# EAGLE library part XE167FM (library xe167_lqfp144)
Infineon XE167FM
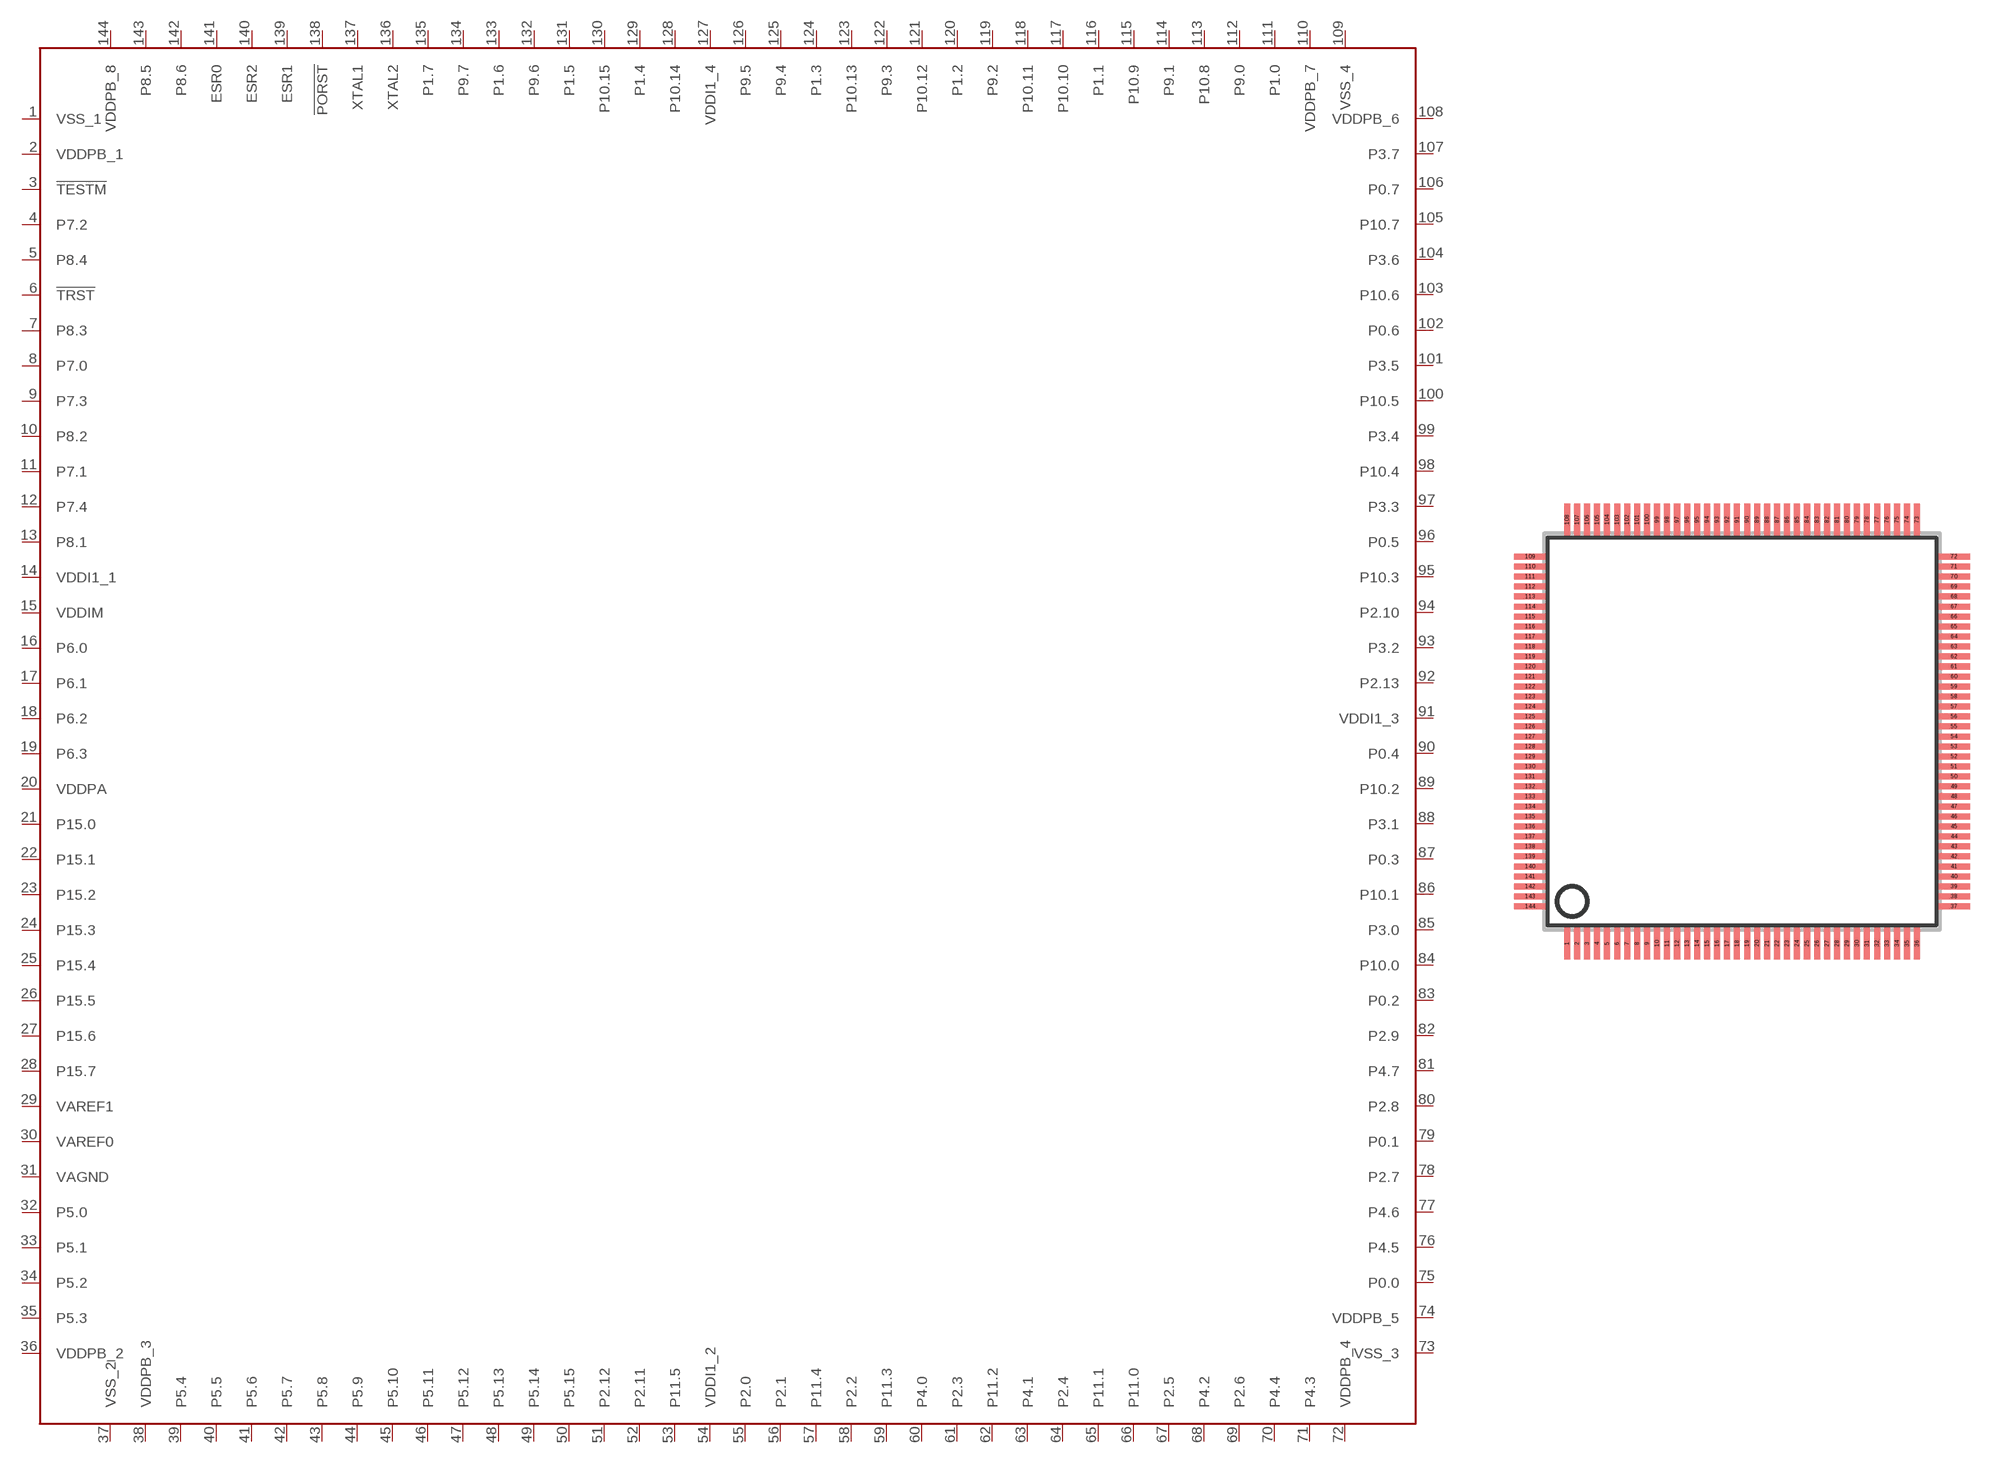
[diagram p0: symbol with the pads of LQFP144; footprint LQFP144]

Designator prefix IC

## XE167FM  [LQFP144]
1  VSS_1  pas
2  VDDPB_1  pas
3  !TESTM  pas
4  P7.2  pas
5  P8.4  pas
6  !TRST  pas
7  P8.3  pas
8  P7.0  pas
9  P7.3  pas
10  P8.2  pas
11  P7.1  pas
12  P7.4  pas
13  P8.1  pas
14  VDDI1_1  pas
15  VDDIM  pas
16  P6.0  pas
17  P6.1  pas
18  P6.2  pas
19  P6.3  pas
20  VDDPA  pas
21  P15.0  pas
22  P15.1  pas
23  P15.2  pas
24  P15.3  pas
25  P15.4  pas
26  P15.5  pas
27  P15.6  pas
28  P15.7  pas
29  VAREF1  pas
30  VAREF0  pas
31  VAGND  pas
32  P5.0  pas
33  P5.1  pas
34  P5.2  pas
35  P5.3  pas
36  VDDPB_2  pas
37  VSS_2  pas
38  VDDPB_3  pas
39  P5.4  pas
40  P5.5  pas
41  P5.6  pas
42  P5.7  pas
43  P5.8  pas
44  P5.9  pas
45  P5.10  pas
46  P5.11  pas
47  P5.12  pas
48  P5.13  pas
49  P5.14  pas
50  P5.15  pas
51  P2.12  pas
52  P2.11  pas
53  P11.5  pas
54  VDDI1_2  pas
55  P2.0  pas
56  P2.1  pas
57  P11.4  pas
58  P2.2  pas
59  P11.3  pas
60  P4.0  pas
61  P2.3  pas
62  P11.2  pas
63  P4.1  pas
64  P2.4  pas
65  P11.1  pas
66  P11.0  pas
67  P2.5  pas
68  P4.2  pas
69  P2.6  pas
70  P4.4  pas
71  P4.3  pas
72  VDDPB_4  pas
73  VSS_3  pas
74  VDDPB_5  pas
75  P0.0  pas
76  P4.5  pas
77  P4.6  pas
78  P2.7  pas
79  P0.1  pas
80  P2.8  pas
81  P4.7  pas
82  P2.9  pas
83  P0.2  pas
84  P10.0  pas
85  P3.0  pas
86  P10.1  pas
87  P0.3  pas
88  P3.1  pas
89  P10.2  pas
90  P0.4  pas
91  VDDI1_3  pas
92  P2.13  pas
93  P3.2  pas
94  P2.10  pas
95  P10.3  pas
96  P0.5  pas
97  P3.3  pas
98  P10.4  pas
99  P3.4  pas
100  P10.5  pas
101  P3.5  pas
102  P0.6  pas
103  P10.6  pas
104  P3.6  pas
105  P10.7  pas
106  P0.7  pas
107  P3.7  pas
108  VDDPB_6  pas
109  VSS_4  pas
110  VDDPB_7  pas
111  P1.0  pas
112  P9.0  pas
113  P10.8  pas
114  P9.1  pas
115  P10.9  pas
116  P1.1  pas
117  P10.10  pas
118  P10.11  pas
119  P9.2  pas
120  P1.2  pas
121  P10.12  pas
122  P9.3  pas
123  P10.13  pas
124  P1.3  pas
125  P9.4  pas
126  P9.5  pas
127  VDDI1_4  pas
128  P10.14  pas
129  P1.4  pas
130  P10.15  pas
131  P1.5  pas
132  P9.6  pas
133  P1.6  pas
134  P9.7  pas
135  P1.7  pas
136  XTAL2  pas
137  XTAL1  pas
138  !PORST  pas
139  ESR1  pas
140  ESR2  pas
141  ESR0  pas
142  P8.6  pas
143  P8.5  pas
144  VDDPB_8  pas

## Footprint LQFP144 (pad centres in mm)
smd 0.3 x 1.6: 1 -17.64,-13.14; 2 -17.14,-13.14; 3 -16.64,-13.14; 4 -16.14,-13.14; 5 -15.64,-13.14; 6 -15.14,-13.14; 7 -14.64,-13.14; 8 -14.14,-13.14; 9 -13.64,-13.14; 10 -13.14,-13.14; 11 -12.64,-13.14; 12 -12.14,-13.14; 13 -11.64,-13.14; 14 -11.14,-13.14; 15 -10.64,-13.14; 16 -10.14,-13.14; 17 -9.64,-13.14; 18 -9.14,-13.14; 19 -8.64,-13.14; 20 -8.14,-13.14; 21 -7.64,-13.14; 22 -7.14,-13.14; 23 -6.64,-13.14; 24 -6.14,-13.14; 25 -5.64,-13.14; 26 -5.14,-13.14; 27 -4.64,-13.14; 28 -4.14,-13.14; 29 -3.64,-13.14; 30 -3.14,-13.14; 31 -2.64,-13.14; 32 -2.14,-13.14; 33 -1.64,-13.14; 34 -1.14,-13.14; 35 -0.64,-13.14; 36 -0.14,-13.14; 73 -0.14,8.06; 74 -0.64,8.06; 75 -1.14,8.06; 76 -1.64,8.06; 77 -2.14,8.06; 78 -2.64,8.06; 79 -3.14,8.06; 80 -3.64,8.06; 81 -4.14,8.06; 82 -4.64,8.06; 83 -5.14,8.06; 84 -5.64,8.06; 85 -6.14,8.06; 86 -6.64,8.06; 87 -7.14,8.06; 88 -7.64,8.06; 89 -8.14,8.06; 90 -8.64,8.06; 91 -9.14,8.06; 92 -9.64,8.06; 93 -10.14,8.06; 94 -10.64,8.06; 95 -11.14,8.06; 96 -11.64,8.06; 97 -12.14,8.06; 98 -12.64,8.06; 99 -13.14,8.06; 100 -13.64,8.06; 101 -14.14,8.06; 102 -14.64,8.06; 103 -15.14,8.06; 104 -15.64,8.06; 105 -16.14,8.06; 106 -16.64,8.06; 107 -17.14,8.06; 108 -17.64,8.06
smd 1.6 x 0.3: 37 1.71,-11.29; 38 1.71,-10.79; 39 1.71,-10.29; 40 1.71,-9.79; 41 1.71,-9.29; 42 1.71,-8.79; 43 1.71,-8.29; 44 1.71,-7.79; 45 1.71,-7.29; 46 1.71,-6.79; 47 1.71,-6.29; 48 1.71,-5.79; 49 1.71,-5.29; 50 1.71,-4.79; 51 1.71,-4.29; 52 1.71,-3.79; 53 1.71,-3.29; 54 1.71,-2.79; 55 1.71,-2.29; 56 1.71,-1.79; 57 1.71,-1.29; 58 1.71,-0.79; 59 1.71,-0.29; 60 1.71,0.21; 61 1.71,0.71; 62 1.71,1.21; 63 1.71,1.71; 64 1.71,2.21; 65 1.71,2.71; 66 1.71,3.21; 67 1.71,3.71; 68 1.71,4.21; 69 1.71,4.71; 70 1.71,5.21; 71 1.71,5.71; 72 1.71,6.21; 109 -19.49,6.21; 110 -19.49,5.71; 111 -19.49,5.21; 112 -19.49,4.71; 113 -19.49,4.21; 114 -19.49,3.71; 115 -19.49,3.21; 116 -19.49,2.71; 117 -19.49,2.21; 118 -19.49,1.71; 119 -19.49,1.21; 120 -19.49,0.71; 121 -19.49,0.21; 122 -19.49,-0.29; 123 -19.49,-0.79; 124 -19.49,-1.29; 125 -19.49,-1.79; 126 -19.49,-2.29; 127 -19.49,-2.79; 128 -19.49,-3.29; 129 -19.49,-3.79; 130 -19.49,-4.29; 131 -19.49,-4.79; 132 -19.49,-5.29; 133 -19.49,-5.79; 134 -19.49,-6.29; 135 -19.49,-6.79; 136 -19.49,-7.29; 137 -19.49,-7.79; 138 -19.49,-8.29; 139 -19.49,-8.79; 140 -19.49,-9.29; 141 -19.49,-9.79; 142 -19.49,-10.29; 143 -19.49,-10.79; 144 -19.49,-11.29